# Altium integrated library altera-stratix-iv.IntLib: 38 symbols (part 7 of 21)
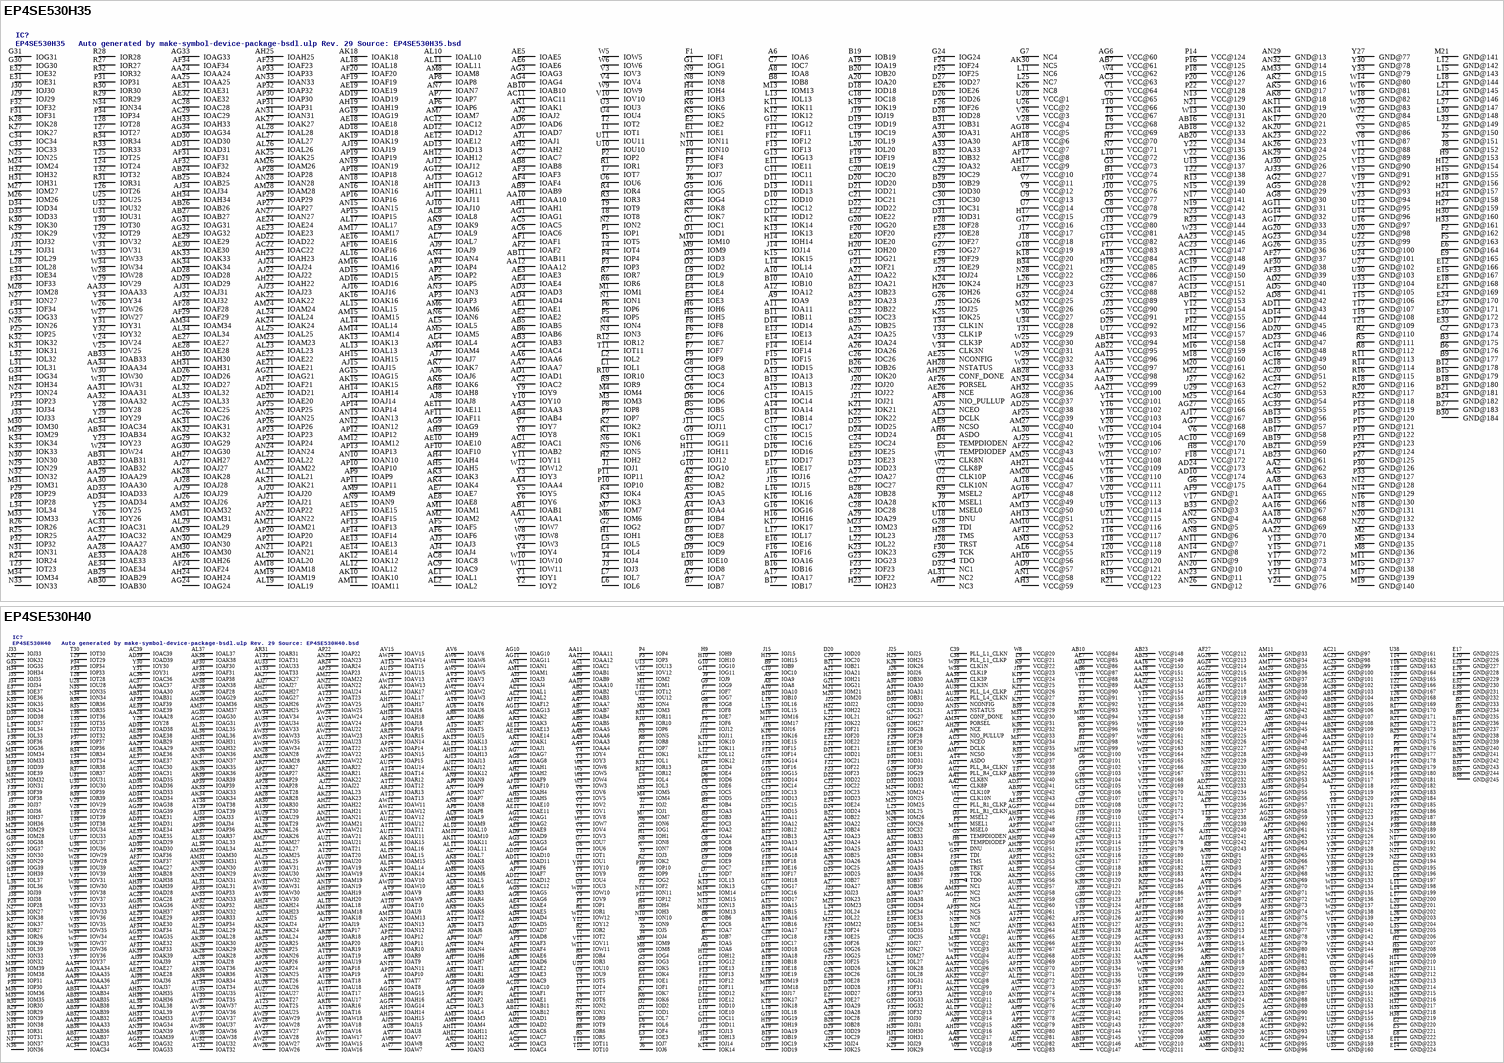
[diagram p22: symbols EP4SE530H35 to EP4SE530H40]

## EP4SE530H40
designator IC?, comment EP4SE530H40   Auto generated by make-symbol-device-package-bsdl.ulp Rev. 29 Source: EP4SE530H40.bsd
MPN: EP4SE530H40C3N; OC_FARNELL: unknown; OC_NEWARK: 52R1739
footprint FBGA1517
pins: A2 IOA2, A3 IOA3, A4 IOA4, A5 IOA5, A6 IOA6, A7 IOA7, A8 IOA8, A9 IOA9, A10 IOA10, A11 IOA11, A12 IOA12, A13 IOA13, A14 IOA14, A15 IOA15, A16 IOA16, A17 IOA17, A18 IOA18, A19 IOA19, A20 VCC@114 (power), A21 IOA21, A22 IOA22, A23 IOA23, A24 IOA24, A25 IOA25, A26 IOA26, A27 IOA27, A28 IOA28, A29 IOA29, A30 IOA30, A31 IOA31, A32 IOA32, A33 IOA33, A34 IOA34, A35 IOA35, A36 IOA36, A37 IOA37, A38 IOA38, AA1 CLK8N, AA2 CLK8P, AA3 IOAA3, AA4 IOAA4, AA5 IOAA5, AA6 IOAA6, AA7 IOAA7, AA8 VCC@17 (power), AA9 VCC@18 (power), AA10 IOAA10, AA11 IOAA11, AA12 IOAA12, AA13 GND@111 (power), AA14 VCC@196 (power), AA15 GND@112 (power), AA16 VCC@150 (power), AA17 GND@113 (power), AA18 VCC@151 (power), AA19 GND@114 (power), AA20 VCC@152 (power), AA21 GND@115 (power), AA22 VCC@153 (power), AA23 GND@116 (power), AA24 VCC@154 (power), AA25 GND@117 (power), AA26 VCC@197 (power), AA27 GND@118 (power), AA28 IOAA28, AA29 IOAA29, AA30 IOAA30, AA31 VCC@5 (power), AA32 VCC@6 (power), AA33 IOAA33, AA34 IOAA34, AA35 IOAA35, AA36 IOAA36, AA37 IOAA37, AA38 CLK3P, AA39 CLK3N, AB1 IOAB1, AB2 IOAB2, AB3 IOAB3, AB4 IOAB4, AB5 IOAB5, AB6 VCC@87 (power), AB7 IOAB7, AB9 IOAB9, AB10 VCC@84 (power), AB11 IOAB11, AB12 IOAB12, AB13 VCC@221 (power), AB14 GND@104 (power), AB15 VCC@144 (power), AB16 GND@105 (power), AB17 VCC@145 (power), AB18 GND@106 (power), AB19 VCC@146 (power), AB20 GND@107 (power), AB21 VCC@147 (power), AB22 GND@108 (power), AB23 VCC@148 (power), AB24 GND@109 (power), AB25 VCC@149 (power), AB26 GND@110 (power), AB27 VCC@211 (power), AB28 IOAB28, AB29 IOAB29, AB30 VCC@42 (power), AB31 IOAB31, AB32 IOAB32, AB33 VCC@40 (power), AB34 IOAB34, AB35 IOAB35, AB36 IOAB36, AB37 IOAB37, AB38 IOAB38, AB39 IOAB39, AC1 IOAC1, AC2 GND@89 (power), AC3 IOAC3, AC4 IOAC4, AC5 GND@90 (power), AC6 IOAC6, AC7 IOAC7, AC8 GND@91 (power), AC9 IOAC9, AC10 IOAC10, AC11 GND@92 (power), AC12 IOAC12, AC13 GND@93 (power), AC14 VCC@194 (power), AC15 GND@94 (power), AC16 VCC@139 (power), AC17 GND@95 (power), AC18 VCC@140 (power), AC19 GND@96 (power), AC20 VCC@141 (power), AC21 GND@97 (power), AC22 VCC@142 (power), AC23 GND@98 (power), AC24 VCC@143 (power), AC25 GND@99 (power), AC26 VCC@195 (power), AC27 IOAC27, AC28 IOAC28, AC29 GND@100 (power), AC30 IOAC30, AC31 IOAC31, AC32 GND@101 (power), AC33 IOAC33, AC34 IOAC34, AC35 GND@102 (power), AC36 IOAC36, AC37 IOAC37, AC38 GND@103 (power), AC39 IOAC39, AD1 IOAD1, AD2 IOAD2, AD3 VCC@86 (power), AD4 IOAD4, AD5 IOAD5, AD6 IOAD6, AD7 IOAD7, AD8 IOAD8, AD9 IOAD9, AD10 IOAD10, AD11 IOAD11, AD12 IOAD12, AD13 VCC@220 (power), AD14 GND@82 (power), AD15 VCC@133 (power), AD16 GND@83 (power), AD17 VCC@134 (power), AD18 GND@84 (power), AD19 VCC@135 (power), AD20 GND@85 (power), AD21 VCC@136 (power), AD22 GND@86 (power), AD23 VCC@137 (power), AD24 GND@87 (power), AD25 VCC@138 (power), AD26 GND@88 (power), AD27 VCC@233 (power), AD28 IOAD28, AD29 IOAD29, AD30 IOAD30, AD31 IOAD31, AD33 IOAD33, AD34 IOAD34, AD35 IOAD35, AD36 IOAD36, AD37 VCC@41 (power), AD38 IOAD38, AD39 IOAD39, AE1 IOAE1, AE2 IOAE2, AE3 IOAE3, AE4 IOAE4, AE5 IOAE5, AE6 IOAE6, AE7 VCC@85 (power), AE9 IOAE9, AE10 IOAE10, AE11 IOAE11, AE12 VCC@82 (power), AE13 IOAE13, AE14 IOAE14, AE15 GND@76 (power), AE16 VCC@128 (power), AE17 GND@77 (power), AE18 VCC@129 (power), AE19 GND@78 (power), AE20 VCC@130 (power), AE21 GND@79 (power), AE22 VCC@131 (power), AE23 GND@80 (power), AE24 VCC@132 (power), AE25 GND@81 (power), AE26 VCC@193 (power), AE27 IOAE27, AE28 IOAE28, AE29 IOAE29, AE30 IOAE30, AE31 IOAE31, AE32 IOAE32, AE33 VCC@44 (power), AE34 IOAE34, AE35 IOAE35, AE36 IOAE36, AE37 IOAE37, AE38 IOAE38, AE39 IOAE39, AF1 IOAF1, AF2 GND@61 (power), AF3 IOAF3, AF4 IOAF4, AF5 GND@62 (power), AF6 IOAF6, AF7 IOAF7, AF8 GND@63 (power), AF9 IOAF9, AF10 IOAF10, AF11 GND@64 (power), AF12 IOAF12, AF13 VCC@219 (power), AF14 GND@65 (power), AF15 VCC@127 (power), AF16 GND@66 (power), AF17 VCC@188 (power), AF18 GND@67 (power), AF19 VCC@189 (power), AF20 GND@68 (power), AF21 VCC@190 (power), AF22 GND@69 (power), AF23 VCC@191 (power), AF24 GND@70 (power), AF25 VCC@192 (power), AF26 GND@71 (power), AF27 VCC@212 (power), AF28 IOAF28, AF29 GND@72 (power), AF30 IOAF30, AF31 IOAF31, AF32 GND@73 (power), AF33 IOAF33, AF34 IOAF34, AF35 GND@74 (power), AF36 IOAF36, AF37 IOAF37, AF38 GND@75 (power), AF39 IOAF39, AG1 IOAG1, AG2 IOAG2, AG3 IOAG3, AG4 IOAG4, AG5 IOAG5, AG6 IOAG6, AG7 IOAG7, AG8 IOAG8, AG9 IOAG9, AG10 IOAG10, AG11 IOAG11, AG12 NC3, AG13 IOAG13, AG14 IOAG14, AG15 IOAG15, AG16 VCC@218 (power), AG17 GND@56 (power), AG18 VCC@217 (power), AG19 GND@57 (power), AG20 VCC@216 (power), AG21 GND@58 (power), AG22 VCC@215 (power), AG23 GND@59 (power), AG24 VCC@214 (power), AG25 GND@60 (power), AG26 VCC@213 (power), AG27 IOAG27, AG28 NCONFIG, AG29 IOAG29, AG30 IOAG30, AG31 IOAG31, AG32 IOAG32, AG33 IOAG33, AG34 IOAG34, AG35 IOAG35, AG36 IOAG36, AG37 VCC@45 (power), AG38 IOAG38, AG39 IOAG39, AH1 IOAH1, AH2 IOAH2, AH3 VCC@83 (power), AH4 IOAH4, AH5 IOAH5, AH6 IOAH6, AH7 IOAH7, AH8 IOAH8, AH9 VCC@77 (power), AH10 VCC@16 (power), AH11 IOAH11, AH12 IOAH12, AH13 IOAH13, AH14 IOAH14, AH15 IOAH15, AH16 IOAH16, AH17 IOAH17, AH18 IOAH18, AH19 IOAH19, AH20 IOAH20, AH21 IOAH21, AH22 IOAH22, AH23 IOAH23, AH24 IOAH24, AH25 IOAH25, AH26 IOAH26, AH27 IOAH27, AH28 VCC@51 (power), AH29 NCE, AH30 VCC@50 (power), AH31 IOAH31, AH32 IOAH32, AH33 IOAH33, AH34 VCC@46 (power), AH35 IOAH35, AH36 IOAH36, AH37 IOAH37, AH38 IOAH38, AH39 IOAH39, AJ1 IOAJ1, AJ2 GND@43 (power), AJ3 IOAJ3, AJ4 IOAJ4, AJ5 GND@44 (power), AJ6 IOAJ6, AJ7 IOAJ7, AJ8 GND@45 (power), AJ9 VCC@15 (power), AJ10 VCC@242 (power), AJ11 GND@46 (power), AJ12 IOAJ12, AJ13 IOAJ13, AJ14 GND@47 (power), AJ15 IOAJ15, AJ16 IOAJ16, AJ17 GND@48 (power), AJ18 IOAJ18, AJ19 IOAJ19, AJ20 GND@49 (power), AJ21 VCC@11 (power), AJ22 IOAJ22, AJ23 GND@50 (power), AJ24 IOAJ24, AJ25 IOAJ25, AJ26 GND@51 (power), AJ27 IOAJ27, AJ28 IOAJ28, AJ29 GND@52 (power), AJ31 VCC@241 (power), AJ32 GND@53 (power), AJ33 IOAJ33, AJ34 IOAJ34, AJ35 GND@54 (power), AJ36 IOAJ36, AJ37 IOAJ37, AJ38 GND@55 (power), AJ39 IOAJ39, AK1 IOAK1, AK2 IOAK2, AK3 IOAK3, AK4 VCC@80 (power), AK5 IOAK5, AK6 IOAK6, AK7 VCC@81 (power), AK8 IOAK8, AK10 VCC@76 (power), AK11 IOAK11, AK12 IOAK12, AK13 IOAK13, AK14 IOAK14, AK15 IOAK15, AK16 VCC@67 (power), AK17 IOAK17, AK18 IOAK18, AK19 VCC@12 (power), AK20 VCC@14 (power), AK21 VCC@10 (power), AK22 IOAK22, AK23 IOAK23, AK24 IOAK24, AK25 VCC@56 (power), AK26 IOAK26, AK27 IOAK27, AK28 IOAK28, AK29 IOAK29, AK30 IOAK30, AK31 VCC@7 (power), AK32 VCC@8 (power), AK33 IOAK33, AK34 IOAK34, AK35 IOAK35, AK36 IOAK36, AK37 VCC@49 (power), AK38 IOAK38, AK39 IOAK39, AL1 IOAL1, AL2 IOAL2, AL3 IOAL3, AL4 IOAL4, AL5 IOAL5, AL6 IOAL6, AL7 IOAL7, AL8 VCC@236 (power), AL9 IOAL9, AL10 IOAL10, AL11 IOAL11, AL12 VCC@72 (power), AL13 IOAL13, AL14 IOAL14, AL15 IOAL15, AL16 IOAL16, AL17 IOAL17, AL18 IOAL18, AL19 VCC@13 (power), AL20 VCC@235 (power), AL21 VCC@9 (power), AL22 VCC@61 (power), AL23 IOAL23, AL24 IOAL24, AL25 IOAL25, AL26 IOAL26, AL27 IOAL27, AL28 IOAL28, AL29 IOAL29, AL30 VCC@55 (power), AL31 IOAL31, AL32 VCC@234 (power), AL33 IOAL33, AL34 IOAL34, AL35 IOAL35, AL36 IOAL36, AL37 IOAL37, AL38 IOAL38, AL39 IOAL39, AM1 IOAM1, AM2 GND@30 (power), AM3 IOAM3, AM4 IOAM4, AM5 GND@31 (power), AM6 IOAM6, AM7 NCSO, AM8 GND@32 (power), AM9 IOAM9, AM10 IOAM10, AM11 GND@33 (power), AM13 IOAM13, AM14 GND@34 (power), AM15 IOAM15, AM17 GND@35 (power), AM18 IOAM18, AM19 IOAM19, AM20 GND@36 (power), AM21 IOAM21, AM22 IOAM22, AM23 GND@37 (power), AM25 IOAM25, AM26 GND@38 (power), AM27 IOAM27, AM28 IOAM28, AM29 GND@39 (power), AM30 IOAM30, AM31 IOAM31, AM32 GND@40 (power), AM33 NC2, AM34 PORSEL, AM35 GND@41 (power), AM36 IOAM36, AM37 IOAM37, AM38 GND@42 (power), AM39 IOAM39, AN1 IOAN1, AN2 IOAN2, AN3 IOAN3, AN4 IOAN4, AN5 IOAN5, AN6 GND@1 (power), AN7 IOAN7, AN8 IOAN8, AN9 IOAN9, AN10 VCC@75 (power), AN11 IOAN11, AN12 IOAN12, AN13 IOAN13, AN14 IOAN14, AN15 IOAN15, AN16 VCC@71 (power), AN18 VCC@64 (power), AN19 IOAN19, AN21 IOAN21, AN22 IOAN22, AN23 IOAN23, AN24 VCC@59 (power), AN25 IOAN25, AN26 IOAN26, AN27 VCC@60 (power), AN28 IOAN28, AN29 IOAN29, AN30 IOAN30, AN31 IOAN31, AN32 IOAN32, AN33 IOAN33, AN34 VCC@54 (power), AN35 NSTATUS, AN36 IOAN36, AN37 IOAN37, AN38 IOAN38, AN39 IOAN39, AP1 IOAP1, AP2 IOAP2, AP3 VCC@79 (power), AP4 IOAP4, AP5 DCLK, AP6 NIO_PULLUP, AP7 IOAP7, AP8 IOAP8, AP9 IOAP9, AP10 IOAP10, AP11 IOAP11, AP12 IOAP12, AP13 VCC@70 (power), AP14 IOAP14, AP15 IOAP15, AP16 IOAP16, AP17 IOAP17, AP18 IOAP18, AP19 IOAP19, AP20 IOAP20, AP21 VCC@63 (power), AP22 IOAP22, AP23 IOAP23, AP24 IOAP24, AP25 IOAP25, AP26 IOAP26, AP27 IOAP27, AP28 IOAP28, AP29 IOAP29, AP31 VCC@53 (power), AP32 IOAP32, AP33 IOAP33, AP34 IOAP34, AP35 NC5, AP36 IOAP36, AP37 VCC@48 (power), AP38 IOAP38, AP39 IOAP39, AR1 IOAR1, AR2 GND@17 (power), AR3 IOAR3, AR4 IOAR4, AR5 GND@18 (power), AR6 IOAR6, AR7 IOAR7, AR8 GND@19 (power), AR9 IOAR9, AR10 IOAR10, AR11 GND@20 (power), AR12 IOAR12, AR13 IOAR13, AR14 GND@21 (power), AR15 IOAR15, AR16 IOAR16, AR17 GND@22 (power), AR18 IOAR18, AR19 IOAR19, AR20 GND@23 (power), AR21 IOAR21, AR22 IOAR22, AR23 GND@24 (power), AR24 IOAR24, AR25 IOAR25, AR26 GND@25 (power), AR27 IOAR27, AR28 IOAR28, AR29 GND@26 (power), AR30 IOAR30, AR31 IOAR31, AR32 GND@27 (power), AR33 IOAR33, AR34 IOAR34, AR35 GND@28 (power), AR36 IOAR36, AR37 IOAR37, AR38 GND@29 (power), AR39 IOAR39, AT1 IOAT1, AT2 IOAT2, AT3 IOAT3, AT4 ASDO, AT5 IOAT5, AT6 IOAT6, AT7 IOAT7, AT8 IOAT8, AT9 IOAT9, AT10 IOAT10, AT11 IOAT11, AT12 IOAT12, AT13 IOAT13, AT14 IOAT14, AT15 IOAT15, AT16 IOAT16, AT17 IOAT17, AT18 IOAT18, AT19 IOAT19, AT20 IOAT20, AT21 IOAT21, AT22 IOAT22, AT23 IOAT23, AT24 VCC@62 (power), AT25 IOAT25, AT26 IOAT26, AT27 IOAT27, AT28 IOAT28, AT29 IOAT29, AT30 IOAT30, AT31 IOAT31, AT32 IOAT32, AT33 IOAT33, AT34 IOAT34, AT35 IOAT35, AT36 IOAT36, AT37 CONF_DONE, AT38 IOAT38, AT39 IOAT39, AU1 PLL_R4_CLKN, AU2 PLL_R4_CLKP, AU3 NCEO, AU4 VCC@73 (power), AU5 IOAU5, AU6 IOAU6, AU7 VCC@74 (power), AU8 IOAU8, AU9 IOAU9, AU10 VCC@68 (power), AU11 IOAU11, AU12 IOAU12, AU13 VCC@69 (power), AU14 IOAU14, AU15 IOAU15, AU16 VCC@66 (power), AU17 IOAU17, AU18 IOAU18, AU19 IOAU19, AU20 IOAU20, AU21 IOAU21, AU22 IOAU22, AU23 IOAU23, AU24 IOAU24, AU25 IOAU25, AU26 IOAU26, AU27 IOAU27, AU28 VCC@57 (power), AU29 IOAU29, AU30 IOAU30, AU31 VCC@58 (power), AU32 IOAU32, AU33 IOAU33, AU34 IOAU34, AU35 IOAU35, AU36 VCC@52 (power), AU37 IOAU37, AU38 PLL_L4_CLKP, AU39 PLL_L4_CLKN, AV1 VCC@78 (power), AV2 GND@4 (power), AV3 IOAV3, AV4 IOAV4, AV5 GND@5 (power), AV6 IOAV6, AV7 IOAV7, AV8 GND@6 (power), AV9 IOAV9, AV10 IOAV10, AV11 GND@7 (power), AV12 IOAV12, AV13 IOAV13, AV14 GND@8 (power), AV15 IOAV15, AV16 IOAV16, AV17 GND@9 (power), AV18 IOAV18, AV19 IOAV19, AV20 GND@10 (power), AV21 IOAV21, AV22 IOAV22, AV23 GND@11 (power), AV24 IOAV24, AV25 IOAV25, AV26 GND@12 (power), AV27 IOAV27, AV28 IOAV28, AV29 GND@13 (power), AV30 IOAV30, AV31 IOAV31, AV32 GND@14 (power), AV33 IOAV33, AV34 IOAV34, AV35 GND@15 (power), AV36 IOAV36, AV37 IOAV37, AV38 GND@16 (power), AV39 VCC@47 (power), AW2 IOAW2, AW3 IOAW3, AW4 IOAW4, AW5 IOAW5, AW6 IOAW6, AW7 IOAW7, AW8 IOAW8, AW9 IOAW9, AW10 IOAW10, AW11 IOAW11, AW12 IOAW12, AW13 IOAW13, AW14 IOAW14, AW15 IOAW15, AW16 IOAW16, AW17 IOAW17, AW18 IOAW18, AW19 IOAW19, AW20 VCC@65 (power), AW21 IOAW21, AW22 IOAW22, AW23 IOAW23, AW24 IOAW24, AW25 IOAW25, AW26 IOAW26, AW27 IOAW27, AW28 IOAW28, AW29 IOAW29, AW30 IOAW30, AW31 IOAW31, AW32 IOAW32, AW33 IOAW33, AW34 IOAW34, AW35 IOAW35, AW36 IOAW36, AW37 IOAW37, AW38 IOAW38, B1 VCC@98 (power), B2 GND@233 (power), B3 IOB3, B4 IOB4, B5 GND@234 (power), B6 IOB6, B7 IOB7, B8 GND@235 (power), B9 IOB9, B10 IOB10, B11 GND@236 (power), B12 IOB12, B13 IOB13, B14 GND@237 (power), B15 IOB15, B16 IOB16, B17 GND@238 (power), B18 IOB18, B19 IOB19, B20 GND@239 (power), B21 IOB21, B22 IOB22, B23 GND@240 (power), B24 IOB24, B25 IOB25, B26 GND@241 (power), B27 IOB27, B28 IOB28, B29 GND@242 (power), B30 IOB30, B31 IOB31, B32 GND@243 (power), B33 IOB33, B34 IOB34, B35 GND@244 (power), B36 IOB36, B37 IOB37, B38 GND@245 (power), B39 VCC@29 (power), C1 PLL_R1_CLKN, C2 PLL_R1_CLKP, C3 IOC3, C4 VCC@103 (power), C5 IOC5, C6 IOC6, C7 IOC7, C8 IOC8, C9 VCC@107 (power), C10 IOC10, C11 IOC11, C12 VCC@108 (power), C13 IOC13, C14 IOC14, C15 IOC15, C16 IOC16, C17 IOC17, C18 IOC18, C19 IOC19, C20 IOC20, C21 IOC21, C22 IOC22, C23 IOC23, C24 VCC@113 (power), C25 IOC25, C26 IOC26, C27 VCC@118 (power), C28 IOC28, C29 IOC29, C30 VCC@119 (power), C31 IOC31, C32 IOC32, C33 VCC@124 (power), C34 IOC34, C35 IOC35, C36 VCC@120 (power), C37 TRST, C38 PLL_L1_CLKP, C39 PLL_L1_CLKN, D1 IOD1, D2 IOD2, D3 MSEL2, D4 IOD4, D5 IOD5, D6 IOD6, D7 IOD7, D8 IOD8, D9 IOD9, D10 IOD10, D11 IOD11, D12 IOD12, D13 IOD13, D14 IOD14, D15 IOD15, D16 VCC@109 (power), D17 IOD17, D18 IOD18, D19 IOD19, D20 IOD20, D21 IOD21, D22 IOD22, D23 IOD23, D24 IOD24, D25 IOD25, D26 IOD26, D27 IOD27, D28 IOD28, D29 IOD29, D30 IOD30, D31 IOD31, D32 IOD32, D33 IOD33, D34 IOD34, D35 IOD35, D36 TCK, D37 IOD37, D38 IOD38, D39 IOD39, E1 IOE1, E2 GND@220 (power), E3 IOE3, E4 IOE4, E5 GND@221 (power), E6 IOE6, E7 IOE7, E8 GND@222 (power), E9 IOE9, E10 IOE10, E11 GND@223 (power), E12 IOE12, E13 IOE13, E14 GND@224 (power), E15 IOE15, E16 IOE16, E17 GND@225 (power), E18 IOE18, E19 IOE19, E20 GND@226 (power), E21 IOE21, E22 IOE22, E23 GND@227 (power), E24 IOE24, E25 IOE25, E26 GND@228 (power), E27 IOE27, E28 IOE28, E29 GND@229 (power), E30 IOE30, E31 IOE31, E32 GND@230 (power), E33 IOE33, E34 IOE34, E35 GND@231 (power), E36 IOE36, E37 IOE37, E38 GND@232 (power), E39 IOE39, F1 IOF1, F2 IOF2, F3 VCC@97 (power), F4 IOF4, F5 MSEL1, F6 IOF6, F7 IOF7, F8 IOF8, F9 VCC@102 (power), F11 IOF11, F12 IOF12, F13 IOF13, F14 IOF14, F15 IOF15, F16 IOF16, F17 IOF17, F18 IOF18, F19 VCC@111 (power), F20 IOF20, F21 IOF21, F22 IOF22, F23 IOF23, F24 IOF24, F25 IOF25, F26 IOF26, F27 VCC@115 (power), F28 IOF28, F29 IOF29, F30 IOF30, F31 IOF31, F32 IOF32, F33 IOF33, F34 TMS, F35 TDO (out), F36 IOF36, F37 VCC@33 (power), F38 IOF38, F39 IOF39, G1 IOG1, G2 IOG2, G3 IOG3, G4 IOG4, G5 TEMPDIODEN, G6 VCC@101 (power), G7 IOG7, G8 IOG8, G9 IOG9, G10 IOG10, G11 IOG11, G12 IOG12, G13 VCC@106 (power), G14 IOG14, G15 IOG15, G16 VCC@104 (power), G17 IOG17, G18 IOG18, G19 IOG19, G21 IOG21, G22 VCC@112 (power), G24 VCC@117 (power), G25 IOG25, G26 IOG26, G27 IOG27, G28 IOG28, G29 IOG29, G30 VCC@123 (power), G31 IOG31, G32 IOG32, G33 IOG33, G34 TDI, G35 IOG35, G36 IOG36, G37 IOG37, G38 IOG38, G39 IOG39, H1 IOH1, H2 GND@207 (power), H3 IOH3, H4 IOH4, H5 GND@208 (power), H6 TEMPDIODEP, H7 NC4, H8 GND@209 (power), H9 IOH9, H10 IOH10, H11 GND@210 (power), H12 IOH12, H13 IOH13, H14 GND@211 (power), H15 IOH15, H17 GND@212 (power), H18 IOH18, H19 IOH19, H20 GND@213 (power), H21 IOH21, H22 IOH22, H23 GND@214 (power), H25 IOH25, H26 GND@215 (power), H27 IOH27, H29 GND@216 (power), H30 IOH30, H31 IOH31, H32 GND@217 (power), H33 NC1, H34 IOH34, H35 GND@218 (power), H36 IOH36, H37 IOH37, H38 GND@219 (power), H39 IOH39, J1 IOJ1, J2 IOJ2, J3 IOJ3, J4 IOJ4, J5 IOJ5, J6 IOJ6, J7 IOJ7, J8 VCC@239 (power), J9 IOJ9, J10 VCC@99 (power), J11 IOJ11, J12 IOJ12, J13 IOJ13, J14 IOJ14, J15 IOJ15, J16 IOJ16, J17 IOJ17, J18 VCC@110 (power), J19 VCC@23 (power), J20 VCC@240 (power), J21 VCC@27 (power), J22 IOJ22, J23 IOJ23, J24 IOJ24, J25 IOJ25, J26 IOJ26, J27 IOJ27, J28 VCC@122 (power), J29 IOJ29, J30 IOJ30, J31 IOJ31, J32 VCC@231 (power), J33 IOJ33, J34 IOJ34, J35 IOJ35, J36 IOJ36, J37 IOJ37, J38 IOJ38, J39 IOJ39, K1 IOK1, K2 IOK2, K3 VCC@96 (power), K4 IOK4, K5 IOK5, K6 IOK6, K7 IOK7, K8 VCC@243 (power), K9 VCC@22 (power), K10 IOK10, K11 IOK11, K12 IOK12, K13 IOK13, K14 IOK14, K15 VCC@105 (power), K16 IOK16, K17 IOK17, K18 IOK18, K19 VCC@24 (power), K20 VCC@28 (power), K21 VCC@26 (power), K22 IOK22, K23 IOK23, K24 VCC@116 (power), K25 IOK25, K26 IOK26, K27 IOK27, K28 IOK28, K29 IOK29, K30 VCC@121 (power), K32 IOK32, K33 VCC@31 (power), K34 IOK34, K35 IOK35, K36 VCC@32 (power), K37 IOK37, K38 IOK38, K39 IOK39, L1 IOL1, L2 GND@195 (power), L3 IOL3, L4 IOL4, L5 GND@196 (power), L6 IOL6, L7 IOL7, L8 GND@197 (power), L9 VCC@21 (power), L11 GND@198 (power), L12 IOL12, L13 IOL13, L14 GND@199 (power), L15 IOL15, L16 IOL16, L17 GND@200 (power), L18 IOL18, L19 VCC@25 (power), L20 GND@201 (power), L21 IOL21, L22 IOL22, L23 GND@202 (power), L24 IOL24, L25 IOL25, L26 GND@203 (power), L27 IOL27, L28 IOL28, L29 GND@204 (power), L30 NC8, L31 VCC@1 (power), L32 GND@3 (power), L33 IOL33, L34 IOL34, L35 GND@205 (power), L36 IOL36, L37 IOL37, L38 GND@206 (power), L39 IOL39, M1 IOM1, M2 IOM2, M3 IOM3, M4 IOM4, M5 IOM5, M6 VCC@95 (power), M7 IOM7, M8 IOM8, M9 IOM9, M10 VCC@94 (power), M11 MSEL0, M12 VCC@100 (power), M13 IOM13, M14 IOM14, M15 IOM15, M16 IOM16, M17 IOM17, M18 IOM18, M19 IOM19, M20 IOM20, M21 IOM21, M22 IOM22, M23 IOM23, M24 IOM24, M25 IOM25, M26 IOM26, M27 IOM27, M28 IOM28, M29 IOM29, M30 VCC@2 (power), M31 VCC@30 (power), M32 IOM32, M33 IOM33, M34 IOM34, M35 IOM35, M36 IOM36, M37 VCC@34 (power), M38 IOM38, M39 IOM39, N1 ION1, N2 ION2, N3 VCC@92 (power), N4 ION4, N5 ION5, N6 ION6, N7 ION7, N8 ION8, N9 ION9, N10 ION10, N11 ION11, N12 NC6, N13 ION13, N14 VCC@225 (power), N15 GND@190 (power), N16 VCC@226 (power), N17 GND@191 (power), N18 VCC@227 (power), N19 GND@192 (power), N20 VCC@228 (power), N21 GND@193 (power), N22 VCC@229 (power), N23 GND@194 (power), N24 VCC@230 (power), N25 ION25, N26 ION26, N27 ION27, N28 NC7, N29 ION29, N30 ION30, N31 ION31, N32 ION32, N33 ION33, N34 ION34, N35 ION35, N36 ION36, N37 ION37, N38 ION38, N39 ION39, P1 IOP1, P2 GND@175 (power), P3 IOP3, P4 IOP4, P5 GND@176 (power), P6 IOP6, P7 IOP7, P8 GND@177 (power), P9 IOP9, P10 IOP10, P11 GND@178 (power), P12 IOP12, P13 VCC@224 (power), P14 GND@179 (power), P15 VCC@203 (power), P16 GND@180 (power), P17 VCC@204 (power), P18 GND@181 (power), P19 VCC@205 (power), P20 GND@182 (power), P21 VCC@187 (power), P22 GND@183 (power), P23 VCC@206 (power), P24 GND@184 (power), P25 VCC@126 (power), P26 GND@185 (power), P27 VCC@207 (power), P28 IOP28, P29 GND@186 (power), P30 IOP30, P31 IOP31, P32 GND@187 (power), P33 IOP33, P34 IOP34, P35 GND@188 (power), P36 IOP36, P37 IOP37, P38 GND@189 (power), P39 IOP39, R1 IOR1, R2 IOR2, R3 IOR3, R4 IOR4, R5 IOR5, R6 IOR6, R7 VCC@93 (power), R8 IOR8, R9 IOR9, R10 IOR10, R11 IOR11, R12 IOR12, R13 IOR13, R14 VCC@202 (power), R15 GND@169 (power), R16 VCC@182 (power), R17 GND@170 (power), R18 VCC@183 (power), R19 GND@171 (power), R20 VCC@184 (power), R21 GND@172 (power), R22 VCC@185 (power), R23 GND@173 (power), R24 VCC@186 (power), R25 GND@174 (power), R26 IOR26, R27 IOR27, R28 VCC@35 (power), R29 IOR29, R30 IOR30, R31 IOR31, R33 VCC@36 (power), R34 IOR34, R35 IOR35, R36 IOR36, R37 IOR37, R38 IOR38, R39 IOR39, T1 IOT1, T2 IOT2, T3 VCC@91 (power), T4 IOT4, T5 IOT5, T6 IOT6, T7 IOT7, T9 IOT9, T10 IOT10, T11 IOT11, T12 IOT12, T13 VCC@238 (power), T14 GND@162 (power), T15 VCC@176 (power), T16 GND@163 (power), T17 VCC@177 (power), T18 GND@164 (power), T19 VCC@178 (power), T20 GND@165 (power), T21 VCC@179 (power), T22 GND@166 (power), T23 VCC@180 (power), T24 GND@167 (power), T25 VCC@181 (power), T26 GND@168 (power), T27 VCC@208 (power), T28 IOT28, T29 IOT29, T30 IOT30, T31 IOT31, T32 IOT32, T33 IOT33, T34 IOT34, T35 IOT35, T36 IOT36, T37 VCC@39 (power), T38 IOT38, T39 IOT39, U1 IOU1, U2 GND@147 (power), U3 IOU3, U4 IOU4, U5 GND@148 (power), U6 IOU6, U7 IOU7, U8 GND@149 (power), U9 IOU9, U10 IOU10, U11 GND@150 (power), U12 IOU12, U13 IOU13, U14 VCC@200 (power), U15 GND@151 (power), U16 VCC@171 (power), U17 GND@152 (power), U18 VCC@172 (power), U19 GND@153 (power), U20 VCC@173 (power), U21 GND@154 (power), U22 VCC@174 (power), U23 GND@155 (power), U24 VCC@175 (power), U25 GND@156 (power), U26 VCC@201 (power), U27 GND@157 (power), U28 IOU28, U29 GND@158 (power), U30 IOU30, U31 IOU31, U32 GND@159 (power), U33 IOU33, U34 IOU34, U35 GND@160 (power), U36 IOU36, U37 IOU37, U38 GND@161 (power), U39 IOU39, V1 IOV1, V2 IOV2, V3 IOV3, V4 IOV4, V5 IOV5, V6 IOV6, V7 VCC@90 (power), V8 IOV8, V9 IOV9, V10 VCC@88 (power), V11 IOV11, V12 IOV12, V13 VCC@223 (power), V14 GND@140 (power), V15 VCC@165 (power), V16 GND@141 (power), V17 VCC@166 (power), V18 GND@142 (power), V19 VCC@167 (power), V20 GND@143 (power), V21 VCC@168 (power), V22 GND@144 (power), V23 VCC@169 (power), V24 GND@145 (power), V25 VCC@170 (power), V26 GND@146 (power), V27 VCC@209 (power), V28 IOV28, V29 IOV29, V30 VCC@37 (power), V31 IOV31, V33 IOV33, V34 VCC@38 (power), V35 IOV35, V36 IOV36, V37 IOV37, V38 IOV38, V39 IOV39, W1 CLK10N, W2 CLK10P, W3 IOW3, W4 IOW4, W5 IOW5, W6 IOW6, W7 IOW7, W8 VCC@20 (power), W9 VCC@19 (power), W10 IOW10, W11 IOW11, W12 IOW12, W13 GND@133 (power), W14 VCC@198 (power), W15 GND@134 (power), W16 VCC@160 (power), W17 GND@135 (power), W18 VCC@161 (power), W19 DNU, W20 VCC@162 (power), W21 GND@136 (power), W22 VCC@163 (power), W23 GND@137 (power), W24 VCC@164 (power), W25 GND@138 (power), W26 VCC@199 (power), W27 GND@139 (power), W28 IOW28, W29 IOW29, W30 IOW30, W31 VCC@4 (power), W32 VCC@3 (power), W33 IOW33, W34 IOW34, W35 IOW35, W36 IOW36, W37 IOW37, W38 CLK1P, W39 CLK1N, Y1 VCC@89 (power), Y2 GND@119 (power), Y3 IOY3, Y4 IOY4, Y5 GND@120 (power), Y7 VCC@237 (power), Y8 GND@121 (power), Y9 IOY9, Y10 IOY10, Y11 GND@122 (power), Y12 IOY12, Y13 VCC@222 (power), Y14 GND@123 (power), Y15 VCC@155 (power), Y16 GND@124 (power), Y17 VCC@156 (power), Y18 GND@125 (power), Y19 VCC@125 (power), Y20 GND@2 (power), Y21 VCC@157 (power), Y22 GND@126 (power), Y23 VCC@158 (power), Y24 GND@127 (power), Y25 VCC@159 (power), Y26 GND@128 (power), Y27 VCC@210 (power), Y28 IOY28, Y29 GND@129 (power), Y30 IOY30, Y31 IOY31, Y32 GND@130 (power), Y33 VCC@232 (power), Y35 GND@131 (power), Y36 IOY36, Y37 IOY37, Y38 GND@132 (power), Y39 VCC@43 (power)

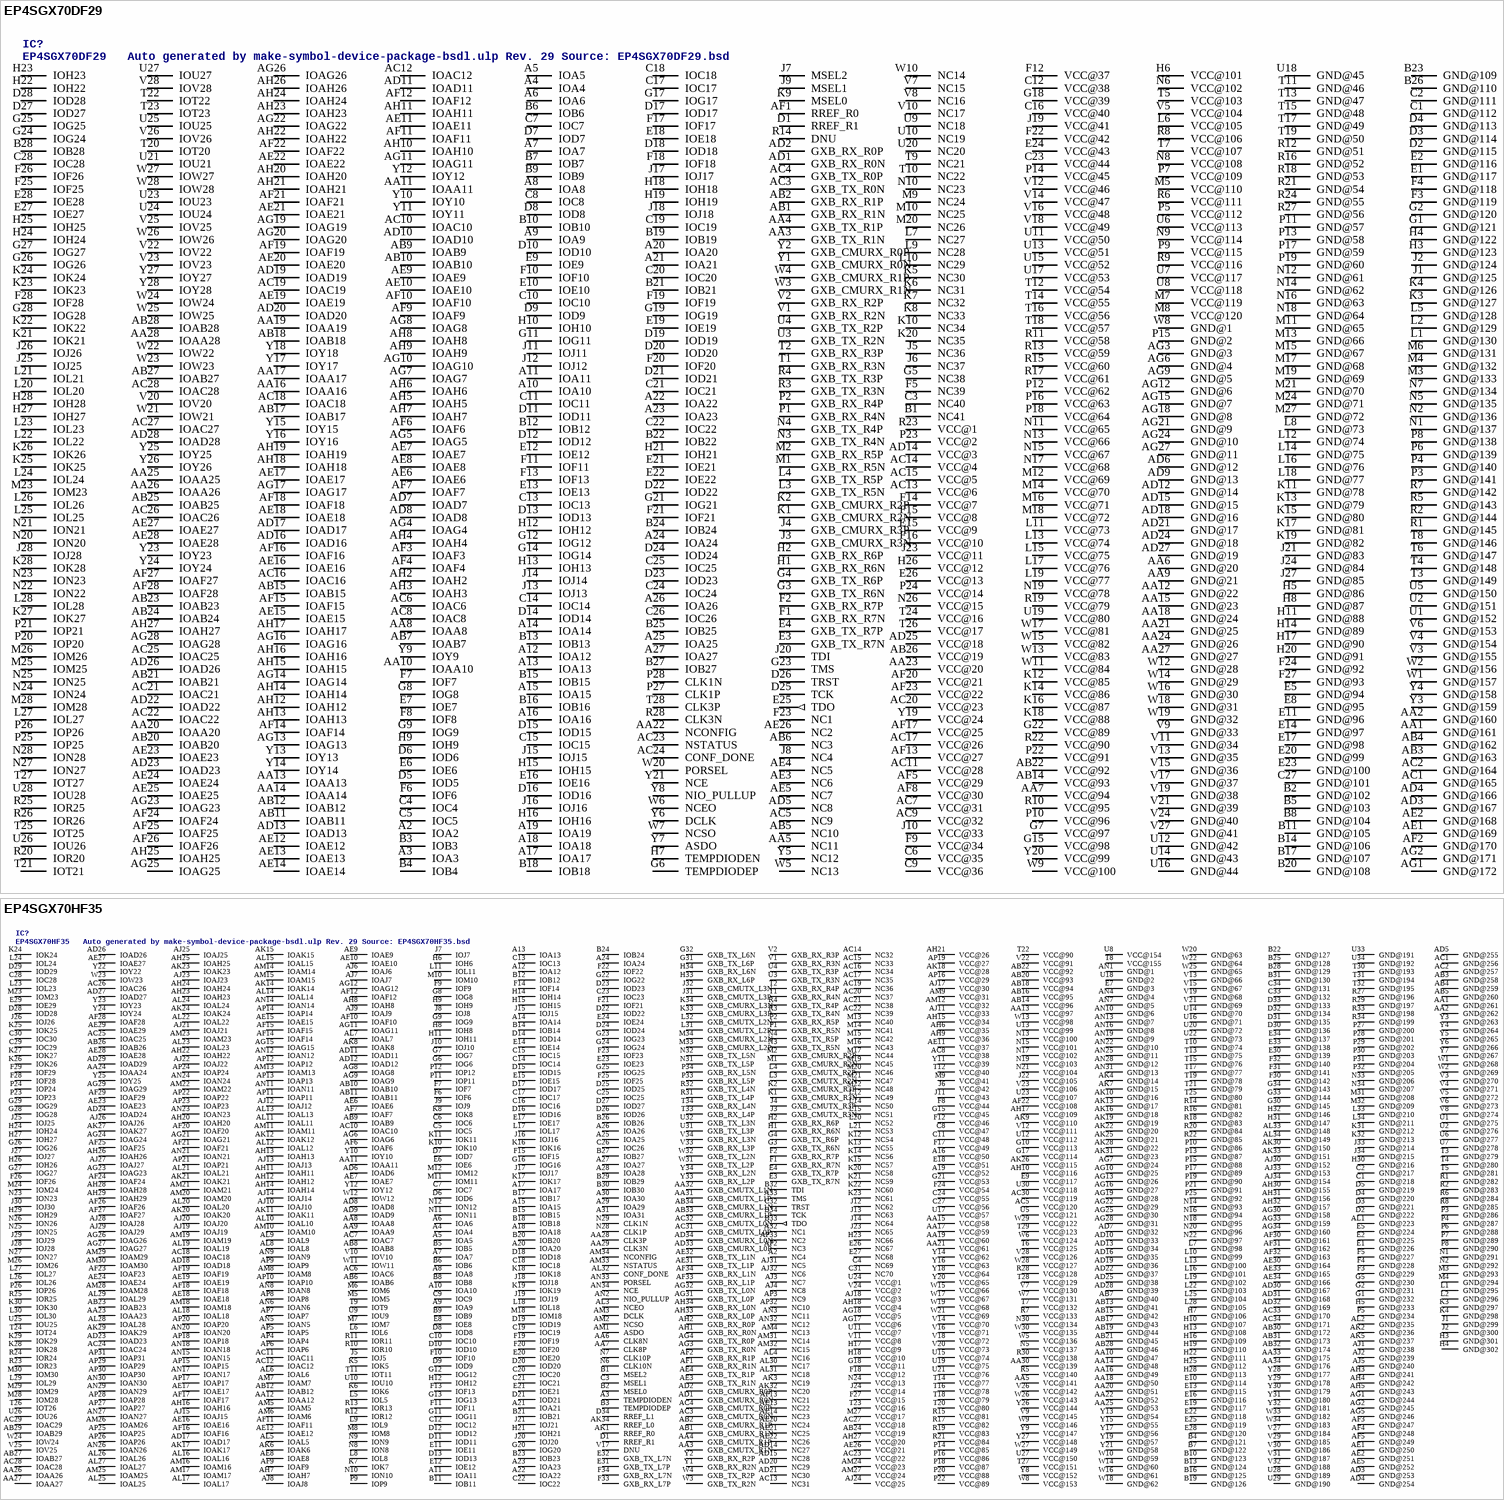
[diagram p5: symbols EP4SGX70DF29 to EP4SGX70HF35]

## EP4SGX70DF29
designator IC?, comment EP4SGX70DF29   Auto generated by make-symbol-device-package-bsdl.ulp Rev. 29 Source: EP4SGX70DF29.bsd
MPN: EP4SGX70DF29C3N; OC_FARNELL: unknown; OC_NEWARK: 52R2062
footprint FBGA780
pins: A2 IOA2, A3 IOA3, A4 IOA4, A5 IOA5, A6 IOA6, A7 IOA7, A8 IOA8, A9 IOA9, A10 IOA10, A11 IOA11, A12 IOA12, A13 IOA13, A14 IOA14, A15 IOA15, A16 IOA16, A17 IOA17, A18 IOA18, A19 IOA19, A20 IOA20, A21 IOA21, A22 IOA22, A23 IOA23, A24 IOA24, A25 IOA25, A26 IOA26, A27 IOA27, AA1 GND@161 (power), AA2 GND@160 (power), AA3 GXB_TX_R1N, AA4 GXB_TX_R1P, AA5 NC11, AA6 GND@20 (power), AA7 VCC@94 (power), AA8 IOAA8, AA9 GND@21 (power), AA10 IOAA10, AA11 IOAA11, AA12 GND@22 (power), AA13 IOAA13, AA14 IOAA14, AA15 GND@23 (power), AA16 IOAA16, AA17 IOAA17, AA18 GND@24 (power), AA19 IOAA19, AA20 IOAA20, AA21 GND@25 (power), AA22 NCONFIG, AA23 VCC@20 (power), AA24 GND@26 (power), AA25 IOAA25, AA26 IOAA26, AA27 GND@27 (power), AA28 IOAA28, AB1 GXB_RX_R1N, AB2 GXB_RX_R1P, AB3 GND@163 (power), AB4 GND@162 (power), AB5 NC10, AB6 NC3, AB7 IOAB7, AB9 IOAB9, AB10 IOAB10, AB11 IOAB11, AB12 IOAB12, AB14 VCC@93 (power), AB15 IOAB15, AB17 IOAB17, AB18 IOAB18, AB20 IOAB20, AB21 IOAB21, AB22 VCC@92 (power), AB23 IOAB23, AB24 IOAB24, AB25 IOAB25, AB26 VCC@19 (power), AB27 IOAB27, AB28 IOAB28, AC1 GND@165 (power), AC2 GND@164 (power), AC3 GXB_TX_R0N, AC4 GXB_TX_R0P, AC5 NC9, AC6 IOAC6, AC7 VCC@31 (power), AC8 IOAC8, AC9 VCC@32 (power), AC10 IOAC10, AC11 VCC@28 (power), AC12 IOAC12, AC13 VCC@6 (power), AC14 VCC@4 (power), AC15 VCC@5 (power), AC16 IOAC16, AC17 VCC@26 (power), AC18 IOAC18, AC19 IOAC19, AC20 VCC@23 (power), AC21 IOAC21, AC22 IOAC22, AC23 NSTATUS, AC24 CONF_DONE, AC25 IOAC25, AC26 IOAC26, AC27 IOAC27, AC28 IOAC28, AD1 GXB_RX_R0N, AD2 GXB_RX_R0P, AD3 GND@167 (power), AD4 GND@166 (power), AD5 NC8, AD6 GND@12 (power), AD7 IOAD7, AD8 IOAD8, AD9 GND@13 (power), AD10 IOAD10, AD11 IOAD11, AD12 GND@14 (power), AD13 IOAD13, AD14 VCC@3 (power), AD15 GND@15 (power), AD16 IOAD16, AD17 IOAD17, AD18 GND@16 (power), AD19 IOAD19, AD20 IOAD20, AD21 GND@17 (power), AD22 IOAD22, AD23 IOAD23, AD24 GND@18 (power), AD25 VCC@18 (power), AD26 IOAD26, AD27 GND@19 (power), AD28 IOAD28, AE1 GND@169 (power), AE2 GND@168 (power), AE3 NC6, AE4 NC5, AE5 NC7, AE6 IOAE6, AE7 IOAE7, AE8 IOAE8, AE9 IOAE9, AE10 IOAE10, AE11 IOAE11, AE12 IOAE12, AE13 IOAE13, AE14 IOAE14, AE15 IOAE15, AE16 IOAE16, AE17 IOAE17, AE18 IOAE18, AE19 IOAE19, AE20 IOAE20, AE21 IOAE21, AE22 IOAE22, AE23 IOAE23, AE24 IOAE24, AE25 IOAE25, AE26 NC2, AE27 IOAE27, AE28 IOAE28, AF1 RREF_R0, AF2 GND@170 (power), AF3 IOAF3, AF4 IOAF4, AF5 VCC@29 (power), AF6 IOAF6, AF7 IOAF7, AF8 VCC@30 (power), AF9 IOAF9, AF10 IOAF10, AF11 IOAF11, AF12 IOAF12, AF13 VCC@27 (power), AF14 IOAF14, AF15 IOAF15, AF16 IOAF16, AF17 VCC@25 (power), AF18 IOAF18, AF19 IOAF19, AF20 VCC@21 (power), AF21 IOAF21, AF22 IOAF22, AF23 VCC@22 (power), AF24 IOAF24, AF25 IOAF25, AF26 IOAF26, AF27 IOAF27, AF28 IOAF28, AG1 GND@172 (power), AG2 GND@171 (power), AG3 GND@3 (power), AG4 IOAG4, AG5 IOAG5, AG6 GND@4 (power), AG7 IOAG7, AG8 IOAG8, AG9 GND@5 (power), AG10 IOAG10, AG11 IOAG11, AG12 GND@6 (power), AG13 IOAG13, AG14 IOAG14, AG15 GND@7 (power), AG16 IOAG16, AG17 IOAG17, AG18 GND@8 (power), AG19 IOAG19, AG20 IOAG20, AG21 GND@9 (power), AG22 IOAG22, AG23 IOAG23, AG24 GND@10 (power), AG25 IOAG25, AG26 IOAG26, AG27 GND@11 (power), AG28 IOAG28, AH2 IOAH2, AH3 IOAH3, AH4 IOAH4, AH5 IOAH5, AH6 IOAH6, AH7 IOAH7, AH8 IOAH8, AH9 IOAH9, AH10 IOAH10, AH11 IOAH11, AH12 IOAH12, AH13 IOAH13, AH14 IOAH14, AH15 IOAH15, AH16 IOAH16, AH17 IOAH17, AH18 IOAH18, AH19 IOAH19, AH20 IOAH20, AH21 IOAH21, AH22 IOAH22, AH23 IOAH23, AH24 IOAH24, AH25 IOAH25, AH26 IOAH26, AH27 IOAH27, B1 NC41, B2 GND@102 (power), B3 IOB3, B4 IOB4, B5 GND@103 (power), B6 IOB6, B7 IOB7, B8 GND@104 (power), B9 IOB9, B10 IOB10, B11 GND@105 (power), B12 IOB12, B13 IOB13, B14 GND@106 (power), B15 IOB15, B16 IOB16, B17 GND@107 (power), B18 IOB18, B19 IOB19, B20 GND@108 (power), B21 IOB21, B22 IOB22, B23 GND@109 (power), B24 IOB24, B25 IOB25, B26 GND@110 (power), B27 IOB27, B28 IOB28, C1 GND@112 (power), C2 GND@111 (power), C3 NC40, C4 IOC4, C5 IOC5, C6 VCC@35 (power), C7 IOC7, C8 IOC8, C9 VCC@36 (power), C10 IOC10, C11 IOC11, C12 VCC@38 (power), C13 IOC13, C14 IOC14, C15 IOC15, C16 VCC@40 (power), C17 IOC17, C18 IOC18, C19 IOC19, C20 IOC20, C21 IOC21, C22 IOC22, C23 VCC@44 (power), C24 IOC24, C25 IOC25, C26 IOC26, C27 GND@101 (power), C28 IOC28, D1 RREF_R1, D2 GND@115 (power), D3 GND@114 (power), D4 GND@113 (power), D5 IOD5, D6 IOD6, D7 IOD7, D8 IOD8, D9 IOD9, D10 IOD10, D11 IOD11, D12 IOD12, D13 IOD13, D14 IOD14, D15 IOD15, D16 IOD16, D17 IOD17, D18 IOD18, D19 IOD19, D20 IOD20, D21 IOD21, D22 IOD22, D23 IOD23, D24 IOD24, D25 TCK, D26 TRST, D27 IOD27, D28 IOD28, E1 GND@117 (power), E2 GND@116 (power), E3 GXB_TX_R7N, E4 GXB_TX_R7P, E5 GND@94 (power), E6 IOE6, E7 IOE7, E8 GND@95 (power), E9 IOE9, E10 IOE10, E11 GND@96 (power), E12 IOE12, E13 IOE13, E14 GND@97 (power), E15 VCC@9 (power), E16 IOE16, E17 GND@98 (power), E18 IOE18, E19 IOE19, E20 GND@99 (power), E21 IOE21, E22 IOE22, E23 GND@100 (power), E24 VCC@43 (power), E25 TDO (out), E26 VCC@13 (power), E27 IOE27, E28 IOE28, F1 GXB_RX_R7N, F2 GXB_RX_R7P, F3 GND@119 (power), F4 GND@118 (power), F5 NC39, F6 IOF6, F7 IOF7, F8 IOF8, F9 VCC@34 (power), F10 IOF10, F11 IOF11, F12 VCC@37 (power), F13 IOF13, F14 VCC@7 (power), F15 VCC@8 (power), F16 VCC@10 (power), F17 IOF17, F18 IOF18, F19 IOF19, F20 IOF20, F21 IOF21, F22 VCC@42 (power), F23 NC1, F24 GND@92 (power), F25 IOF25, F26 IOF26, F27 GND@93 (power), F28 IOF28, G1 GND@121 (power), G2 GND@120 (power), G3 GXB_TX_R6N, G4 GXB_TX_R6P, G5 NC38, G6 TEMPDIODEP, G7 VCC@97 (power), G8 IOG8, G9 IOG9, G11 IOG11, G12 IOG12, G14 IOG14, G15 VCC@98 (power), G17 IOG17, G18 VCC@39 (power), G19 IOG19, G21 IOG21, G22 VCC@89 (power), G23 TMS, G24 IOG24, G25 IOG25, G26 IOG26, G27 IOG27, G28 IOG28, H1 GXB_RX_R6N, H2 GXB_RX_R6P, H3 GND@123 (power), H4 GND@122 (power), H5 GND@86 (power), H6 VCC@101 (power), H7 TEMPDIODEN, H8 GND@87 (power), H9 IOH9, H10 IOH10, H11 GND@88 (power), H12 IOH12, H13 IOH13, H14 GND@89 (power), H15 IOH15, H16 IOH16, H17 GND@90 (power), H18 IOH18, H19 IOH19, H20 GND@91 (power), H21 IOH21, H22 IOH22, H23 IOH23, H24 IOH24, H25 IOH25, H26 VCC@12 (power), H27 IOH27, H28 IOH28, J1 GND@125 (power), J2 GND@124 (power), J3 GXB_CMURX_R3N, J4 GXB_CMURX_R3P, J5 NC36, J6 NC37, J7 MSEL2, J8 NC4, J9 MSEL1, J10 VCC@33 (power), J11 IOJ11, J12 IOJ12, J13 IOJ13, J14 IOJ14, J15 IOJ15, J16 IOJ16, J17 IOJ17, J18 IOJ18, J19 VCC@41 (power), J20 TDI, J21 GND@83 (power), J23 VCC@11 (power), J24 GND@84 (power), J25 IOJ25, J26 IOJ26, J27 GND@85 (power), J28 IOJ28, K1 GXB_CMURX_R2N, K2 GXB_CMURX_R2P, K3 GND@127 (power), K4 GND@126 (power), K5 NC30, K6 NC31, K7 NC32, K8 NC33, K9 MSEL0, K10 NC34, K11 GND@78 (power), K12 VCC@85 (power), K13 GND@79 (power), K14 VCC@86 (power), K15 GND@80 (power), K16 VCC@87 (power), K17 GND@81 (power), K18 VCC@88 (power), K19 GND@82 (power), K20 NC35, K21 IOK21, K22 IOK22, K23 IOK23, K24 IOK24, K25 IOK25, K26 IOK26, K27 IOK27, K28 IOK28, L1 GND@130 (power), L2 GND@129 (power), L3 GXB_TX_R5N, L4 GXB_TX_R5P, L5 GND@128 (power), L6 VCC@105 (power), L7 NC27, L8 GND@73 (power), L9 NC28, L10 NC29, L11 VCC@73 (power), L12 GND@74 (power), L13 VCC@74 (power), L14 GND@75 (power), L15 VCC@75 (power), L16 GND@76 (power), L17 VCC@76 (power), L18 GND@77 (power), L19 VCC@77 (power), L20 IOL20, L21 IOL21, L22 IOL22, L23 IOL23, L24 IOL24, L25 IOL25, L26 IOL26, L27 IOL27, L28 IOL28, M1 GXB_RX_R5N, M2 GXB_RX_R5P, M3 GND@133 (power), M4 GND@132 (power), M5 VCC@110 (power), M6 GND@131 (power), M7 VCC@119 (power), M8 VCC@120 (power), M9 NC24, M10 NC25, M11 GND@65 (power), M12 VCC@69 (power), M13 GND@66 (power), M14 VCC@70 (power), M15 GND@67 (power), M16 VCC@71 (power), M17 GND@68 (power), M18 VCC@72 (power), M19 GND@69 (power), M20 NC26, M21 GND@70 (power), M23 IOM23, M24 GND@71 (power), M25 IOM25, M26 IOM26, M27 GND@72 (power), M28 IOM28, N1 GND@137 (power), N2 GND@136 (power), N3 GXB_TX_R4N, N4 GXB_TX_R4P, N5 GND@135 (power), N6 VCC@102 (power), N7 GND@134 (power), N8 VCC@108 (power), N9 VCC@114 (power), N10 NC23, N11 VCC@65 (power), N12 GND@61 (power), N13 VCC@66 (power), N14 GND@62 (power), N15 VCC@67 (power), N16 GND@63 (power), N17 VCC@68 (power), N18 GND@64 (power), N19 VCC@78 (power), N20 ION20, N21 ION21, N22 ION22, N23 ION23, N24 ION24, N25 ION25, N26 VCC@15 (power), N27 ION27, N28 ION28, P1 GXB_RX_R4N, P2 GXB_RX_R4P, P3 GND@141 (power), P4 GND@140 (power), P5 VCC@112 (power), P6 GND@139 (power), P7 VCC@109 (power), P8 GND@138 (power), P9 VCC@115 (power), P10 VCC@96 (power), P11 GND@57 (power), P12 VCC@62 (power), P13 GND@58 (power), P14 VCC@45 (power), P15 GND@2 (power), P16 VCC@63 (power), P17 GND@59 (power), P18 VCC@64 (power), P19 GND@60 (power), P20 IOP20, P21 IOP21, P22 VCC@91 (power), P23 VCC@2 (power), P24 VCC@14 (power), P25 IOP25, P26 IOP26, P27 CLK1P, P28 CLK1N, R1 GND@145 (power), R2 GND@144 (power), R3 GXB_TX_R3N, R4 GXB_TX_R3P, R5 GND@143 (power), R6 VCC@111 (power), R7 GND@142 (power), R8 VCC@106 (power), R9 VCC@116 (power), R10 VCC@95 (power), R11 VCC@58 (power), R12 GND@51 (power), R13 VCC@59 (power), R14 DNU, R15 VCC@60 (power), R16 GND@52 (power), R17 VCC@61 (power), R18 GND@53 (power), R19 VCC@79 (power), R20 IOR20, R21 GND@54 (power), R22 VCC@90 (power), R23 VCC@1 (power), R24 GND@55 (power), R25 IOR25, R26 IOR26, R27 GND@56 (power), R28 CLK3N, T1 GXB_RX_R3N, T2 GXB_RX_R3P, T3 GND@149 (power), T4 GND@148 (power), T5 VCC@103 (power), T6 GND@147 (power), T7 VCC@107 (power), T8 GND@146 (power), T9 NC21, T10 NC22, T11 GND@46 (power), T12 VCC@54 (power), T13 GND@47 (power), T14 VCC@55 (power), T15 GND@48 (power), T16 VCC@56 (power), T17 GND@49 (power), T18 VCC@57 (power), T19 GND@50 (power), T20 IOT20, T21 IOT21, T22 IOT22, T23 IOT23, T24 VCC@16 (power), T25 IOT25, T26 VCC@17 (power), T27 IOT27, T28 CLK3P, U1 GND@152 (power), U2 GND@151 (power), U3 GXB_TX_R2N, U4 GXB_TX_R2P, U5 GND@150 (power), U6 VCC@113 (power), U7 VCC@117 (power), U8 VCC@118 (power), U9 NC18, U10 NC19, U11 VCC@50 (power), U12 GND@42 (power), U13 VCC@51 (power), U14 GND@43 (power), U15 VCC@52 (power), U16 GND@44 (power), U17 VCC@53 (power), U18 GND@45 (power), U19 VCC@80 (power), U20 NC20, U21 IOU21, U23 IOU23, U24 IOU24, U25 IOU25, U26 IOU26, U27 IOU27, U28 IOU28, V1 GXB_RX_R2N, V2 GXB_RX_R2P, V3 GND@155 (power), V4 GND@154 (power), V5 VCC@104 (power), V6 GND@153 (power), V7 NC15, V8 NC16, V9 GND@33 (power), V10 NC17, V11 GND@34 (power), V12 VCC@46 (power), V13 GND@35 (power), V14 VCC@47 (power), V15 GND@36 (power), V16 VCC@48 (power), V17 GND@37 (power), V18 VCC@49 (power), V19 GND@38 (power), V20 IOV20, V21 GND@39 (power), V22 IOV22, V23 IOV23, V24 GND@40 (power), V25 IOV25, V26 IOV26, V27 GND@41 (power), V28 IOV28, W1 GND@157 (power), W2 GND@156 (power), W3 GXB_CMURX_R1N, W4 GXB_CMURX_R1P, W5 NC13, W6 NCEO, W7 NCSO, W8 GND@1 (power), W9 VCC@100 (power), W10 NC14, W11 VCC@84 (power), W12 GND@28 (power), W13 VCC@83 (power), W14 GND@29 (power), W15 VCC@82 (power), W16 GND@30 (power), W17 VCC@81 (power), W18 GND@31 (power), W19 GND@32 (power), W20 PORSEL, W21 IOW21, W22 IOW22, W23 IOW23, W24 IOW24, W25 IOW25, W26 IOW26, W27 IOW27, W28 IOW28, Y1 GXB_CMURX_R0N, Y2 GXB_CMURX_R0P, Y3 GND@159 (power), Y4 GND@158 (power), Y5 NC12, Y6 DCLK, Y7 ASDO, Y8 NIO_PULLUP, Y9 IOY9, Y10 IOY10, Y11 IOY11, Y12 IOY12, Y13 IOY13, Y14 IOY14, Y15 IOY15, Y16 IOY16, Y17 IOY17, Y18 IOY18, Y19 VCC@24 (power), Y20 VCC@99 (power), Y21 NCE, Y23 IOY23, Y24 IOY24, Y25 IOY25, Y26 IOY26, Y27 IOY27, Y28 IOY28